# EAGLE library part TI-SN74AXC4T774RSV (library EagleLibrary)
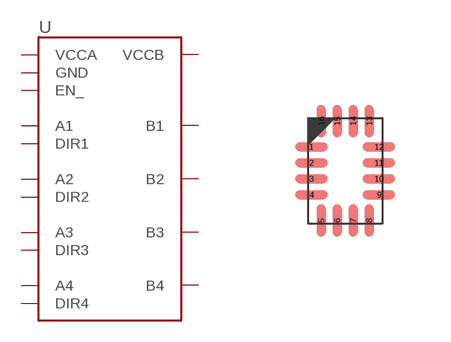
[diagram p42: symbol with the pads of TI-SN74AXC4T774RSV; footprint TI-SN74AXC4T774RSV]

Designator prefix U

## TI-SN74AXC4T774RSV (MFG: Texas Instruments; PN: SN74AXC4T774RSV)  [TI-SN74AXC4T774RSV]
1  A1
2  A2
3  A3
4  A4
5  DIR3
6  DIR4
7  EN_
8  GND
9  B4
10  B3
11  B2
12  B1
13  VCCB
14  VCCA
15  DIR1
16  DIR2

## Footprint TI-SN74AXC4T774RSV (pad centres in mm)
16-QFN, 0.40 mm pitch, 2.60 X 1.80 X 1.00 mm body 16-pin QFN package with 0.40 mm pitch with body size 2.60 X 1.80 X 1.00 mm
smd 0.81 x 0.22: 1 -0.845,0.6; 2 -0.845,0.2; 3 -0.845,-0.2; 4 -0.845,-0.6; 9 0.845,-0.6; 10 0.845,-0.2; 11 0.845,0.2; 12 0.845,0.6
smd 0.22 x 0.81: 5 -0.6,-1.245; 6 -0.2,-1.245; 7 0.2,-1.245; 8 0.6,-1.245; 13 0.6,1.245; 14 0.2,1.245; 15 -0.2,1.245; 16 -0.6,1.245